# Altium footprint library ES_Pcb_x.PcbLib: 354 footprints (part 5 of 23)
Each footprint in its own frame and in the unit in brackets; x right, y up, seen from the top. Pads: shape width x height; smd on the part's side, far side on the other; paste and mask are expansions set on the pad; w line width, h text height; cw(c..) or ccw(c..) is an arc to the next point about the centre after c.
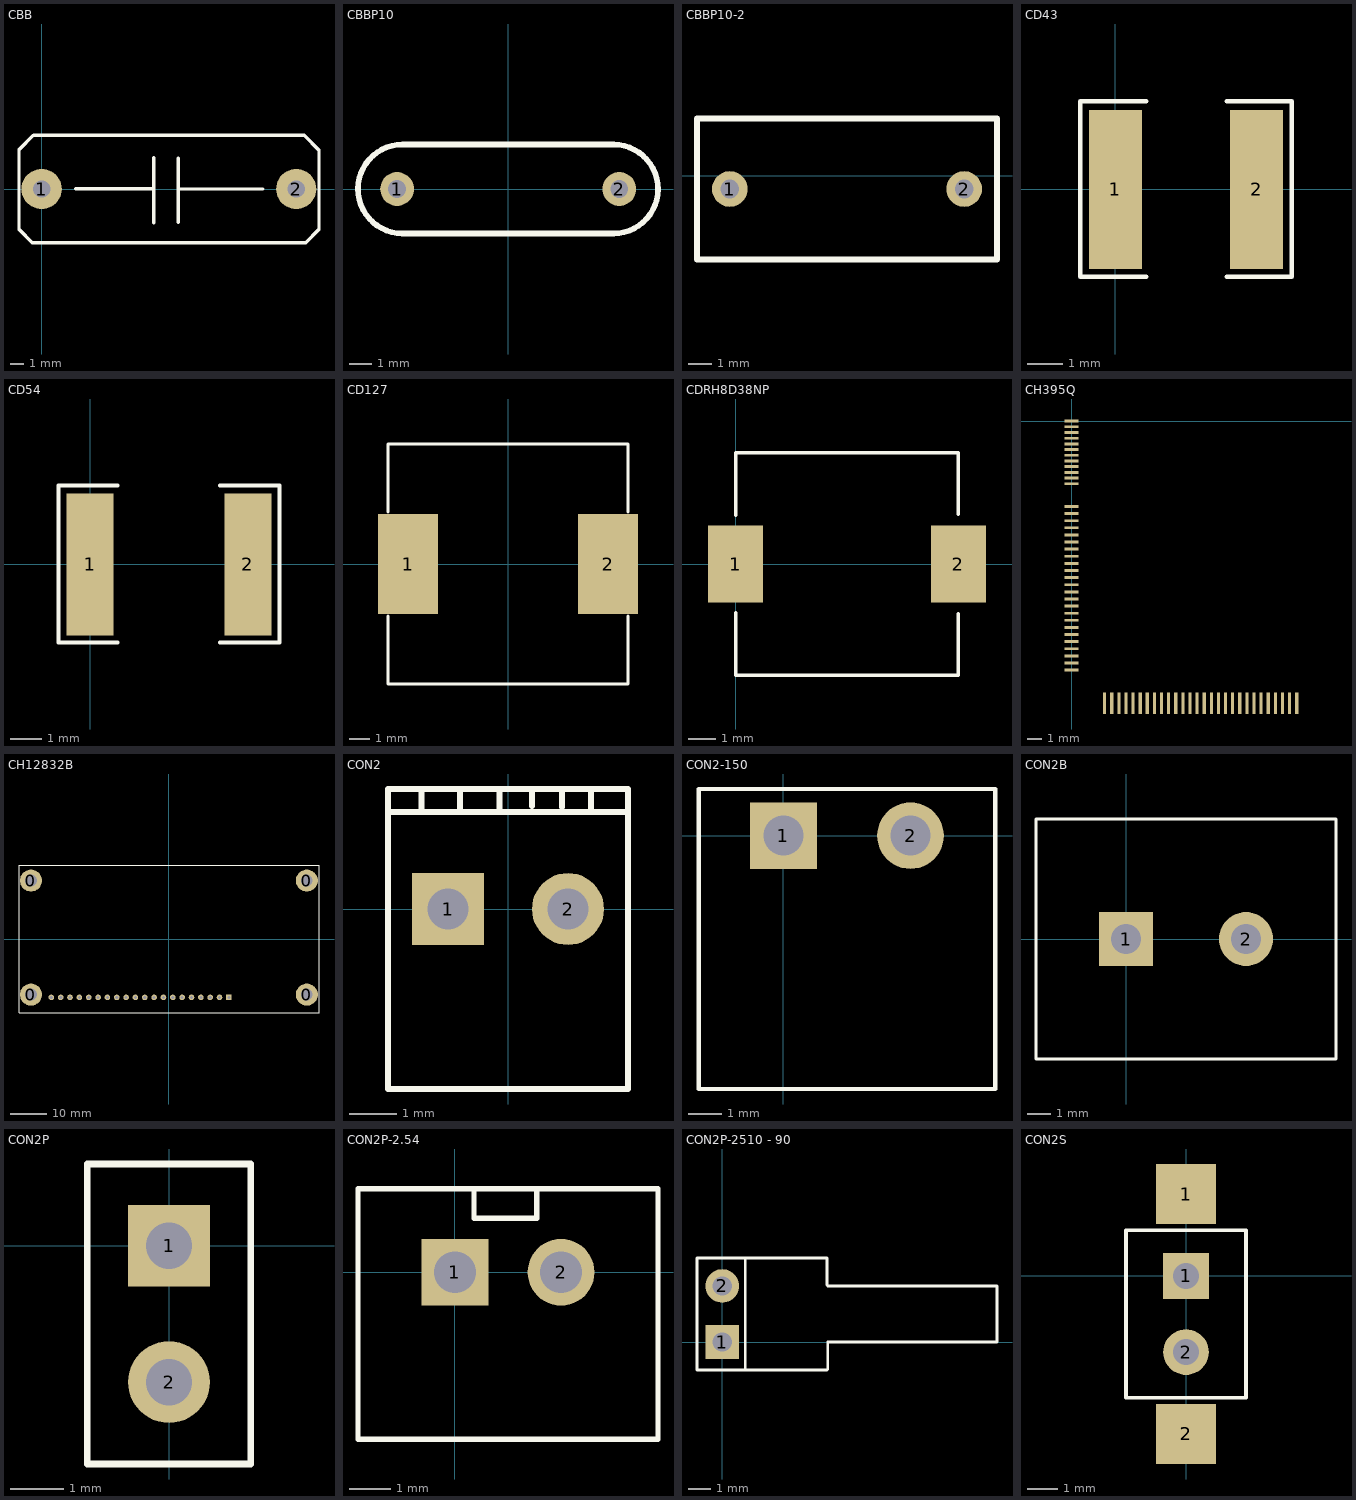
[diagram p4: the footprints below, top view; thin cyan lines are the x and y axes]

## CBB [mm]
pads (2):
  round 3 hole 1.3: 1(0,0) 2(19,0)
Top Overlay:
  lines w0.254: 2.55,0.025 8.341,0.025 ; 8.366,-2.54 8.366,2.337 ; 10.195,-2.489 10.195,2.311 ; 10.322,0 16.494,0 ; -1.692,-3.007 -0.699,-4 -0.648,-4 -0.533,-4 6.258,-4 15.529,-4 19.699,-4 20.701,-2.998 20.701,2.896 19.597,4 15.529,4 6.258,4 -0.508,4 -0.613,4 -1.692,2.921 -1.692,-2.997 -1.692,-3.007

## CBBP10 [mm]
pads (2):
  round 1.524 hole 0.8: 1(-5,0) 2(5,0)
Top Overlay:
  lines w0.254: -4.765,-2 cw(c-4.76,0) -4.746,2 4.746,2 cw(c4.742,0) 4.727,-2 ; -4.746,-2 4.746,-2

## CBBP10-2 [mil]
pads (2):
  round 60 hole 31.5: 1(227.15,-22) 2(620.85,-22)
Top Overlay:
  lines w10: 172.03,-140.11 172.03,96.11 675.97,96.11 675.97,-140.11 172.03,-140.11

## CD43 [mm]
pads (2):
  rect 1.5x4.5 smd: 1(0,0) 2(4,0)
Top Overlay:
  lines w0.127: 0.875,-2.475 -1,-2.475 -1,2.5 0.875,2.5 ; 3.15,-2.475 5,-2.475 5,2.5 3.15,2.5

## CD54 [mm]
pads (2):
  rect 1.5x4.5 smd: 1(0,0) 2(5,0)
Top Overlay:
  lines w0.127: 0.875,-2.475 -1,-2.475 -1,2.5 0.875,2.5 ; 4.115,-2.475 5.994,-2.475 5.994,2.5 4.115,2.5

## CD127 [mm]
pads (2):
  rect 3x5 smd: 1(-5,0) 2(5,0)
Top Overlay:
  lines w0.127: -6,-2.6 -6,-6 6,-6 6,-2.6 ; -6,2.6 -6,6 6,6 6,2.6

## CDRH8D38NP [mm]
pads (2):
  rect 2x2.8 smd: 1(0,0) 2(8.1,0)
Top Overlay:
  lines w0.127: 0,-1.778 0,-4.05 8.1,-4.05 8.1,-1.806 ; 0,1.778 0,4.05 8.1,4.05 8.1,1.806

## CH395Q [mm]
pads (64):
  rect 1x0.2 smd: 1(0,0) 2(0,-0.4) 3(0,-0.8) 4(0,-1.2) 5(0,-1.6) 6(0,-2) 7(0,-2.4) 8(0,-2.8) 9(0,-3.2) 10(0,-3.6) 11(0,-4) 12(0,-4.4) 13(0,-6) 14(0,-6.5) 15(0,-7) 16(0,-7.5) 17(0,-8) 18(0,-8.5) 19(0,-9) 20(0,-9.5) 21(0,-10) 22(0,-10.5) 23(0,-11) 24(0,-11.5) 25(0,-12) 26(0,-12.5) 27(0,-13) 28(0,-13.5) 29(0,-14) 30(0,-14.5) 31(0,-15) 32(0,-15.5) 33(0,-16) 34(0,-16.5) 35(0,-17) 36(0,-17.5)
  rect 0.22x1.524 smd: 37(2.323,-19.823) 38(2.823,-19.823) 39(3.323,-19.823) 40(3.823,-19.823) 41(4.323,-19.823) 42(4.823,-19.823) 43(5.323,-19.823) 44(5.823,-19.823) 45(6.323,-19.823) 46(6.823,-19.823) 47(7.323,-19.823) 48(7.823,-19.823) 49(8.323,-19.823) 50(8.823,-19.823) 51(9.323,-19.823) 52(9.823,-19.823) 53(10.323,-19.823) 54(10.823,-19.823) 55(11.323,-19.823) 56(11.823,-19.823) 57(12.323,-19.823) 58(12.823,-19.823) 59(13.323,-19.823) 60(13.823,-19.823) 61(14.323,-19.823) 62(14.823,-19.823) 63(15.323,-19.823) 64(15.823,-19.823)

## CH12832B [mil]
pads (24):
  round 236.22 hole 125.98: 0(-1476.38,-595.24) 0(-1476.38,625.24) 0(1476.38,-595.24) 0(1476.38,625.24)
  rect 60x60 hole 34: 1(641.73,-625.24)
  round 60 hole 34: 2(541.73,-625.24) 3(441.73,-625.24) 4(341.73,-625.24) 5(241.73,-625.24) 6(141.73,-625.24) 7(41.73,-625.24) 8(-58.27,-625.24) 9(-158.27,-625.24) 10(-258.27,-625.24) 11(-358.27,-625.24) 12(-458.27,-625.24) 13(-558.27,-625.24) 14(-658.27,-625.24) 15(-758.27,-625.24) 16(-858.27,-625.24) 17(-958.27,-625.24) 18(-1058.27,-625.24) 19(-1158.27,-625.24) 20(-1258.27,-625.24)
Top Overlay:
  lines w5: -1604.33,-787.4 -1604.33,787.4 1606.3,787.4 1606.3,-787.4 -1604.33,-787.4

## CON2 [mil]
pads (2):
  rect 60x60 hole 34: 1(-50,0)
  round 60 hole 34: 2(50,0)
Top Overlay:
  lines w5: -100,81 97,81 ; -72,83 -72,100 ; -40,82 -40,100 ; -7,81 -7,99 ; 20,86 20,100 ; 45,85 45,100 ; 69,84 69,100 ; -100,-150 -100,100 100,100 100,-150 -100,-150

## CON2-150 [mm]
pads (2):
  rect 2x2 hole 1.2: 1(0,0)
  round 2 hole 1.2: 2(3.81,0)
Top Overlay:
  lines w0.127: -2.545,-7.6 6.355,-7.6 6.355,1.4 -2.545,1.4 -2.545,-7.6

## CON2B [mil]
pads (2):
  rect 90x90 hole 50: 1(0,0)
  round 90 hole 50: 2(200,0)
Top Overlay:
  lines w5: -150,-200 350,-200 350,200 -150,200 -150,-200

## CON2P [mil]
pads (2):
  rect 60x60 hole 34: 1(0,0)
  round 60 hole 34: 2(0,-100)
Top Overlay:
  lines w5: -60,-160 60,-160 60,60 -60,60 -60,-160

## CON2P-2.54 [mm]
pads (2):
  rect 1.6x1.6 hole 1: 1(0,0)
  round 1.6 hole 1: 2(2.54,0)
Top Overlay:
  lines w0.127: -2.321,-4 4.861,-4 4.861,1.981 ; -2.321,-3.988 -2.321,1.981 ; -2.321,2 4.861,2 ; 0.457,1.93 0.457,1.295 1.956,1.295 1.956,1.93

## CON2P-2510 - 90 [mil]
pads (2):
  rect 60x60 hole 34: 1(0,0)
  round 60 hole 34: 2(0,100)
Top Overlay:
  lines w5: 186.57,-50 40.89,-50 ; 186.57,101.57 186.57,150 40.89,150 ; 188.15,-48.43 188.15,0 489.72,0 489.72,100 188.15,100 ; 40.89,-50 -45,-50 -45,150 40.89,150 ; 40.89,-50 40.89,150

## CON2S [mm]
pads (4):
  rect 1.524x1.524 hole 0.864: 1(0,0)
  rect 2x2 smd: 1(0,2.73) 2(0,-5.27)
  round 1.524 hole 0.864: 2(0,-2.54)
Top Overlay:
  lines w0.127: -2,-4.064 -2,1.524 2,1.524 2,-4.064 -2,-4.064